# EAGLE library part EP1KXXXQC208 (library altera)
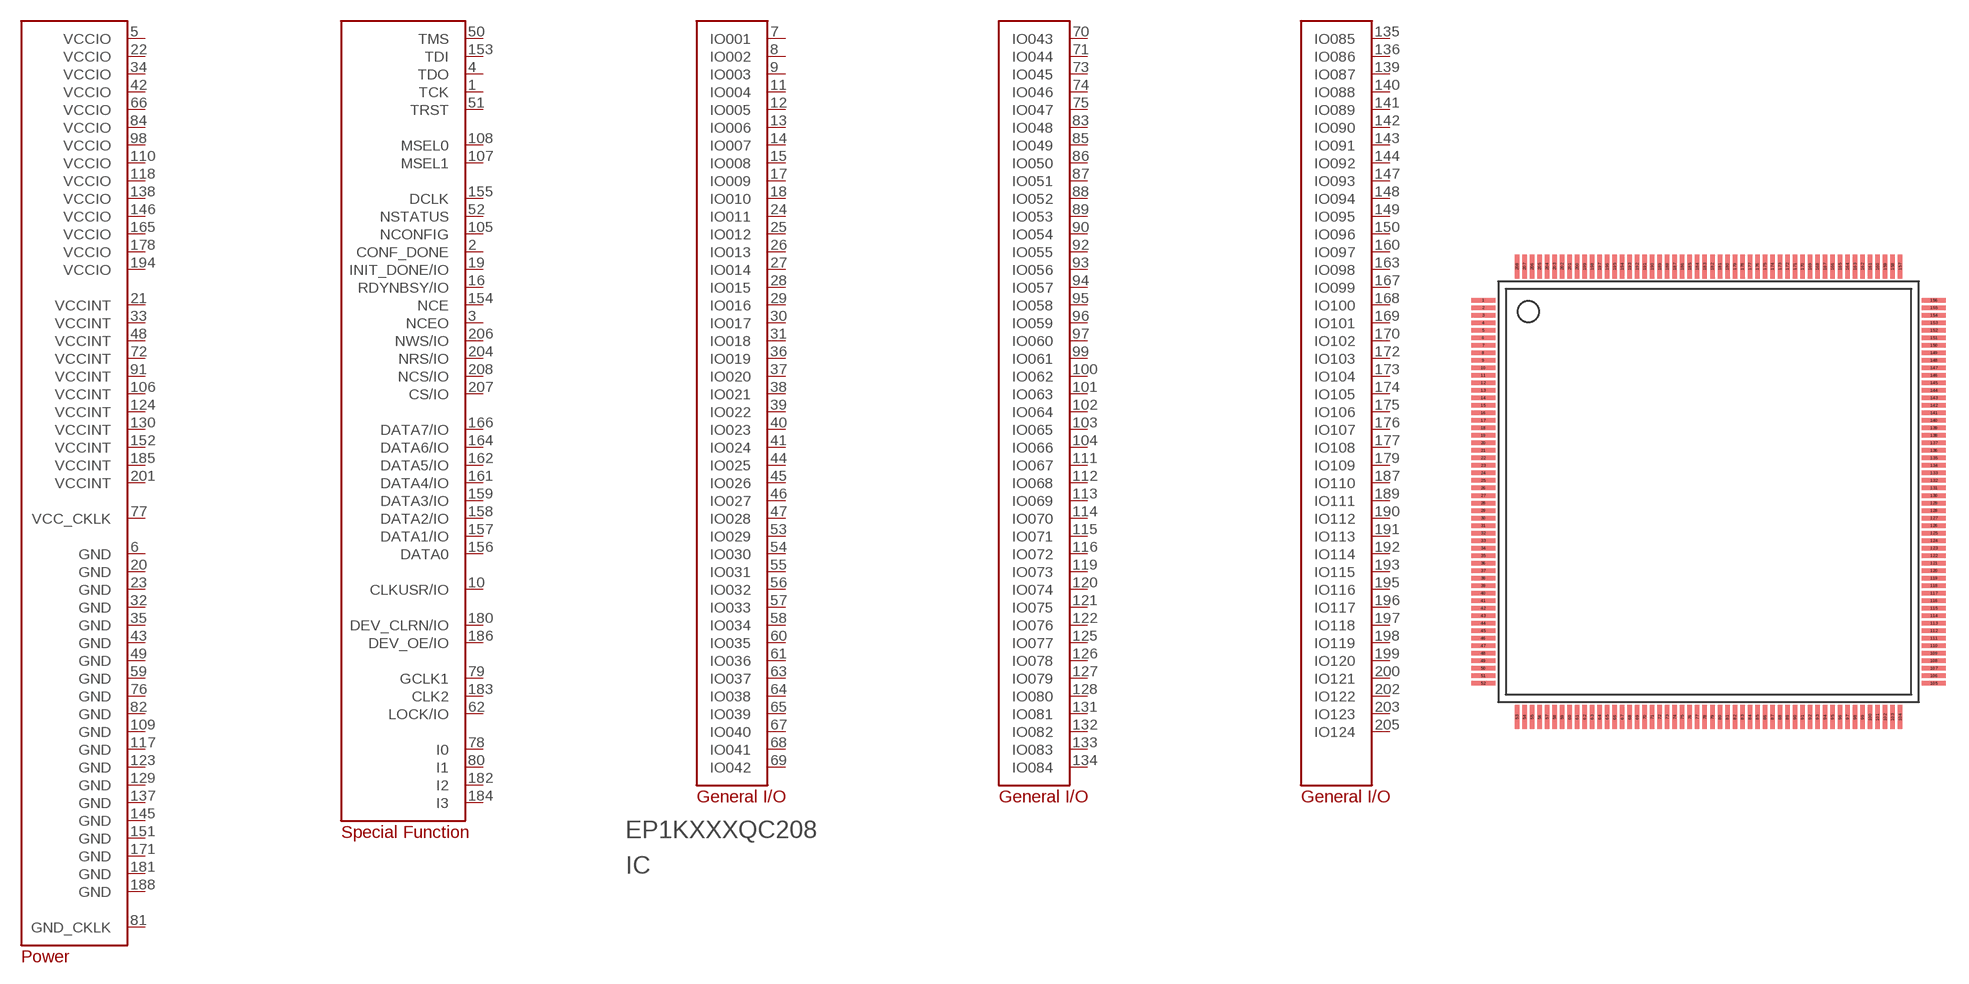
[diagram p0: symbol with the pads of PQ208; footprint PQ208]

Designator prefix IC

## EP1KXXXQC208  [PQ208]
1  TCK
2  CONF_DONE
3  NCEO
4  TDO
5  VCCIO  pwr
6  GND  pwr
7  IO001
8  IO002
9  IO003
10  CLKUSR/IO
11  IO004
12  IO005
13  IO006
14  IO007
15  IO008
16  RDYNBSY/IO
17  IO009
18  IO010
19  INIT_DONE/IO
20  GND  pwr
21  VCCINT  pwr
22  VCCIO  pwr
23  GND  pwr
24  IO011
25  IO012
26  IO013
27  IO014
28  IO015
29  IO016
30  IO017
31  IO018
32  GND  pwr
33  VCCINT  pwr
34  VCCIO  pwr
35  GND  pwr
36  IO019
37  IO020
38  IO021
39  IO022
40  IO023
41  IO024
42  VCCIO  pwr
43  GND  pwr
44  IO025
45  IO026
46  IO027
47  IO028
48  VCCINT  pwr
49  GND  pwr
50  TMS
51  TRST
52  NSTATUS
53  IO029
54  IO030
55  IO031
56  IO032
57  IO033
58  IO034
59  GND  pwr
60  IO035
61  IO036
62  LOCK/IO
63  IO037
64  IO038
65  IO039
66  VCCIO  pwr
67  IO040
68  IO041
69  IO042
70  IO043
71  IO044
72  VCCINT  pwr
73  IO045
74  IO046
75  IO047
76  GND  pwr
77  VCC_CKLK  pwr
78  I0
79  GCLK1
80  I1
81  GND_CKLK  pwr
82  GND  pwr
83  IO048
84  VCCIO  pwr
85  IO049
86  IO050
87  IO051
88  IO052
89  IO053
90  IO054
91  VCCINT  pwr
92  IO055
93  IO056
94  IO057
95  IO058
96  IO059
97  IO060
98  VCCIO  pwr
99  IO061
100  IO062
101  IO063
102  IO064
103  IO065
104  IO066
105  NCONFIG
106  VCCINT  pwr
107  MSEL1
108  MSEL0
109  GND  pwr
110  VCCIO  pwr
111  IO067
112  IO068
113  IO069
114  IO070
115  IO071
116  IO072
117  GND  pwr
118  VCCIO  pwr
119  IO073
120  IO074
121  IO075
122  IO076
123  GND  pwr
124  VCCINT  pwr
125  IO077
126  IO078
127  IO079
128  IO080
129  GND  pwr
130  VCCINT  pwr
131  IO081
132  IO082
133  IO083
134  IO084
135  IO085
136  IO086
137  GND  pwr
138  VCCIO  pwr
139  IO087
140  IO088
141  IO089
142  IO090
143  IO091
144  IO092
145  GND  pwr
146  VCCIO  pwr
147  IO093
148  IO094
149  IO095
150  IO096
151  GND  pwr
152  VCCINT  pwr
153  TDI
154  NCE
155  DCLK
156  DATA0
157  DATA1/IO
158  DATA2/IO
159  DATA3/IO
160  IO097
161  DATA4/IO
162  DATA5/IO
163  IO098
164  DATA6/IO
165  VCCIO  pwr
166  DATA7/IO
167  IO099
168  IO100
169  IO101
170  IO102
171  GND  pwr
172  IO103
173  IO104
174  IO105
175  IO106
176  IO107
177  IO108
178  VCCIO  pwr
179  IO109
180  DEV_CLRN/IO
181  GND  pwr
182  I2
183  CLK2
184  I3
185  VCCINT  pwr
186  DEV_OE/IO
187  IO110
188  GND  pwr
189  IO111
190  IO112
191  IO113
192  IO114
193  IO115
194  VCCIO  pwr
195  IO116
196  IO117
197  IO118
198  IO119
199  IO120
200  IO121
201  VCCINT  pwr
202  IO122
203  IO123
204  NRS/IO
205  IO124
206  NWS/IO
207  CS/IO
208  NCS/IO

## Footprint PQ208 (pad centres in mm)
smd 1.6 x 0.3: 1 -15,12.75; 2 -15,12.25; 3 -15,11.75; 4 -15,11.25; 5 -15,10.75; 6 -15,10.25; 7 -15,9.75; 8 -15,9.25; 9 -15,8.75; 10 -15,8.25; 11 -15,7.75; 12 -15,7.25; 13 -15,6.75; 14 -15,6.25; 15 -15,5.75; 16 -15,5.25; 17 -15,4.75; 18 -15,4.25; 19 -15,3.75; 20 -15,3.25; 21 -15,2.75; 22 -15,2.25; 23 -15,1.75; 24 -15,1.25; 25 -15,0.75; 26 -15,0.25; 27 -15,-0.25; 28 -15,-0.75; 29 -15,-1.25; 30 -15,-1.75; 31 -15,-2.25; 32 -15,-2.75; 33 -15,-3.25; 34 -15,-3.75; 35 -15,-4.25; 36 -15,-4.75; 37 -15,-5.25; 38 -15,-5.75; 39 -15,-6.25; 40 -15,-6.75; 41 -15,-7.25; 42 -15,-7.75; 43 -15,-8.25; 44 -15,-8.75; 45 -15,-9.25; 46 -15,-9.75; 47 -15,-10.25; 48 -15,-10.75; 49 -15,-11.25; 50 -15,-11.75; 51 -15,-12.25; 52 -15,-12.75; 105 15,-12.75; 106 15,-12.25; 107 15,-11.75; 108 15,-11.25; 109 15,-10.75; 110 15,-10.25; 111 15,-9.75; 112 15,-9.25; 113 15,-8.75; 114 15,-8.25; 115 15,-7.75; 116 15,-7.25; 117 15,-6.75; 118 15,-6.25; 119 15,-5.75; 120 15,-5.25; 121 15,-4.75; 122 15,-4.25; 123 15,-3.75; 124 15,-3.25; 125 15,-2.75; 126 15,-2.25; 127 15,-1.75; 128 15,-1.25; 129 15,-0.75; 130 15,-0.25; 131 15,0.25; 132 15,0.75; 133 15,1.25; 134 15,1.75; 135 15,2.25; 136 15,2.75; 137 15,3.25; 138 15,3.75; 139 15,4.25; 140 15,4.75; 141 15,5.25; 142 15,5.75; 143 15,6.25; 144 15,6.75; 145 15,7.25; 146 15,7.75; 147 15,8.25; 148 15,8.75; 149 15,9.25; 150 15,9.75; 151 15,10.25; 152 15,10.75; 153 15,11.25; 154 15,11.75; 155 15,12.25; 156 15,12.75
smd 0.3 x 1.6: 53 -12.75,-15; 54 -12.25,-15; 55 -11.75,-15; 56 -11.25,-15; 57 -10.75,-15; 58 -10.25,-15; 59 -9.75,-15; 60 -9.25,-15; 61 -8.75,-15; 62 -8.25,-15; 63 -7.75,-15; 64 -7.25,-15; 65 -6.75,-15; 66 -6.25,-15; 67 -5.75,-15; 68 -5.25,-15; 69 -4.75,-15; 70 -4.25,-15; 71 -3.75,-15; 72 -3.25,-15; 73 -2.75,-15; 74 -2.25,-15; 75 -1.75,-15; 76 -1.25,-15; 77 -0.75,-15; 78 -0.25,-15; 79 0.25,-15; 80 0.75,-15; 81 1.25,-15; 82 1.75,-15; 83 2.25,-15; 84 2.75,-15; 85 3.25,-15; 86 3.75,-15; 87 4.25,-15; 88 4.75,-15; 89 5.25,-15; 90 5.75,-15; 91 6.25,-15; 92 6.75,-15; 93 7.25,-15; 94 7.75,-15; 95 8.25,-15; 96 8.75,-15; 97 9.25,-15; 98 9.75,-15; 99 10.25,-15; 100 10.75,-15; 101 11.25,-15; 102 11.75,-15; 103 12.25,-15; 104 12.75,-15; 157 12.75,15; 158 12.25,15; 159 11.75,15; 160 11.25,15; 161 10.75,15; 162 10.25,15; 163 9.75,15; 164 9.25,15; 165 8.75,15; 166 8.25,15; 167 7.75,15; 168 7.25,15; 169 6.75,15; 170 6.25,15; 171 5.75,15; 172 5.25,15; 173 4.75,15; 174 4.25,15; 175 3.75,15; 176 3.25,15; 177 2.75,15; 178 2.25,15; 179 1.75,15; 180 1.25,15; 181 0.75,15; 182 0.25,15; 183 -0.25,15; 184 -0.75,15; 185 -1.25,15; 186 -1.75,15; 187 -2.25,15; 188 -2.75,15; 189 -3.25,15; 190 -3.75,15; 191 -4.25,15; 192 -4.75,15; 193 -5.25,15; 194 -5.75,15; 195 -6.25,15; 196 -6.75,15; 197 -7.25,15; 198 -7.75,15; 199 -8.25,15; 200 -8.75,15; 201 -9.25,15; 202 -9.75,15; 203 -10.25,15; 204 -10.75,15; 205 -11.25,15; 206 -11.75,15; 207 -12.25,15; 208 -12.75,15